# Altium schematic symbol library regulateur.SchLib: 1 symbol
Pins are listed as number, name and electrical type; pins without a type are passive.

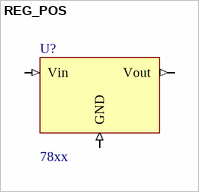
[diagram p0: symbol REG_POS]

## REG_POS
designator U?, comment 78xx
régulateur positif fixe
footprint TO220H
footprint TO220V
footprint TO252
footprint TO92_reg
pins: 1 Vin (in), 2 GND (in), 3 Vout (out)